# EAGLE library part LMT2 (library trackuino)
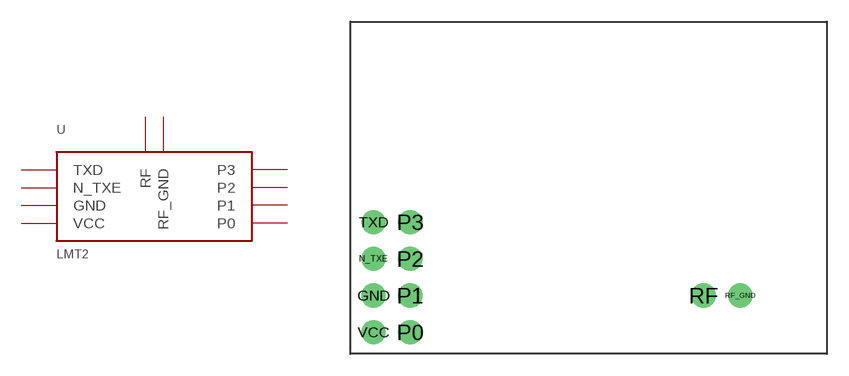
[diagram p2: symbol with the pads of LMT2; footprint LMT2]

Designator prefix -

## LMT2  [LMT2]
GND  GND  pwr
N_TXE  N_TXE  in
P0  P0  in
P1  P1  in
P2  P2  in
P3  P3  in
RF  RF  out
RF_GND  RF_GND  pwr
TXD  TXD  in
VCC  VCC  pwr

## Footprint LMT2 (pad centres in mm)
drill 0.8 pad 1.676: GND -15.24,-7.62; N_TXE -15.24,-5.08; P0 -12.7,-10.16; P1 -12.7,-7.62; P2 -12.7,-5.08; P3 -12.7,-2.54; RF 7.62,-7.62; RF_GND 10.16,-7.62; TXD -15.24,-2.54; VCC -15.24,-10.16